# EAGLE library part GMSTBA12 (library Copy of CON_PHOENIX_508)
PHOENIX
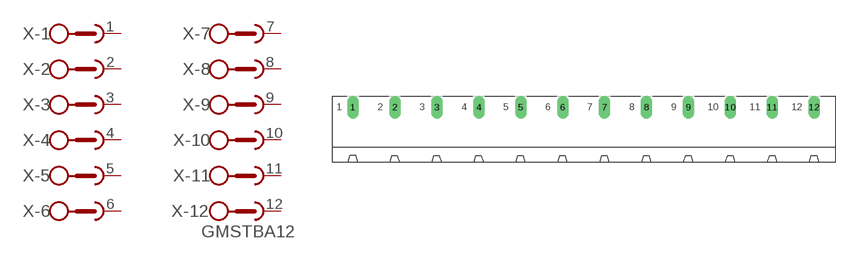
[diagram p5: symbol with the pads of GMSTBA12; footprint GMSTBA12]

Designator prefix X; gates -1=SKB -2=SKB -3=SKB -4=SKB -5=SKB -6=SKB -7=SKB -8=SKB -9=SKB -10=SKB -11=SKB -12=SKBV

## GMSTBA12  [GMSTBA12]
1  -1:1  pas
2  -2:1  pas
3  -3:1  pas
4  -4:1  pas
5  -5:1  pas
6  -6:1  pas
7  -7:1  pas
8  -8:1  pas
9  -9:1  pas
10  -10:1  pas
11  -11:1  pas
12  -12:1  pas

## Footprint GMSTBA12 (pad centres in mm)
PHOENIX
drill 1.397 long: 1 -41.91,5.08; 2 -34.29,5.08; 3 -26.67,5.08; 4 -19.05,5.08; 5 -11.43,5.08; 6 -3.81,5.08; 7 3.81,5.08; 8 11.43,5.08; 9 19.05,5.08; 10 26.67,5.08; 11 34.29,5.08; 12 41.91,5.08